# EAGLE library part SFV30R-3STBE1HLF (library con-fpc)
30 Position FPC Connector Contacts, Bottom 0.020" (0.50mm) Surface Mount, Right Angle
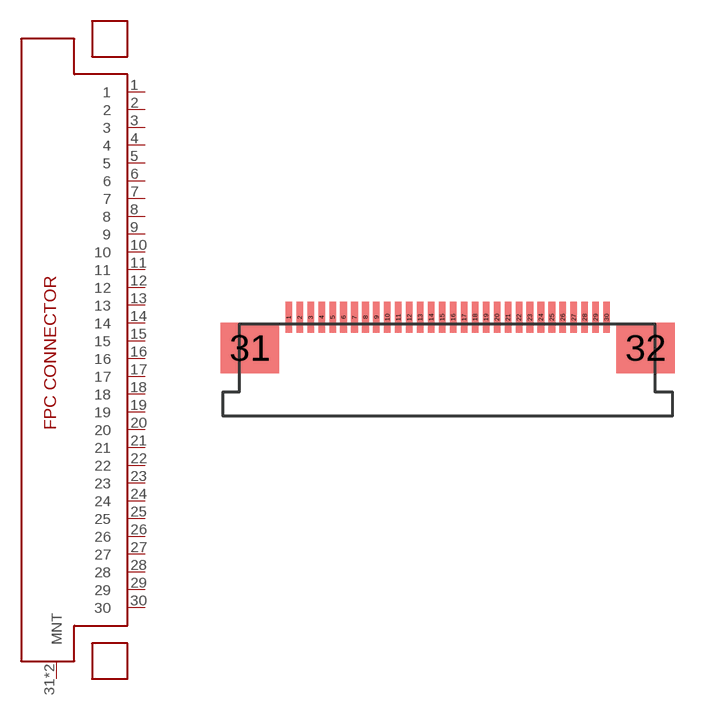
[diagram p0: symbol with the pads of SFV30R-3STBE1HLF; footprint SFV30R-3STBE1HLF]

Designator prefix J

## SFV30R-3STBE1HLFTOP (DIGIKEY: 609-5204-1-ND; MFR: amphenol FCI; MPN: SFV30R-3STBE1HLF)  [SFV30R-3STBE1HLF]
1  1
2  2
3  3
4  4
5  5
6  6
7  7
8  8
9  9
10  10
11  11
12  12
13  13
14  14
15  15
16  16
17  17
18  18
19  19
20  20
21  21
22  22
23  23
24  24
25  25
26  26
27  27
28  28
29  29
30  30
31  MNT
32  MNT

## Footprint SFV30R-3STBE1HLF (pad centres in mm)
smd 0.3 x 1.4: 1 -7.25,2.4; 2 -6.75,2.4; 3 -6.25,2.4; 4 -5.75,2.4; 5 -5.25,2.4; 6 -4.75,2.4; 7 -4.25,2.4; 8 -3.75,2.4; 9 -3.25,2.4; 10 -2.75,2.4; 11 -2.25,2.4; 12 -1.75,2.4; 13 -1.25,2.4; 14 -0.75,2.4; 15 -0.25,2.4; 16 0.25,2.4; 17 0.75,2.4; 18 1.25,2.4; 19 1.75,2.4; 20 2.25,2.4; 21 2.75,2.4; 22 3.25,2.4; 23 3.75,2.4; 24 4.25,2.4; 25 4.75,2.4; 26 5.25,2.4; 27 5.75,2.4; 28 6.25,2.4; 29 6.75,2.4; 30 7.25,2.4
smd 2.65 x 2.3: 31 -9.025,1; 32 9.025,1